# EAGLE library part BLOCKVB_1/6/2 (library tinyPFC)
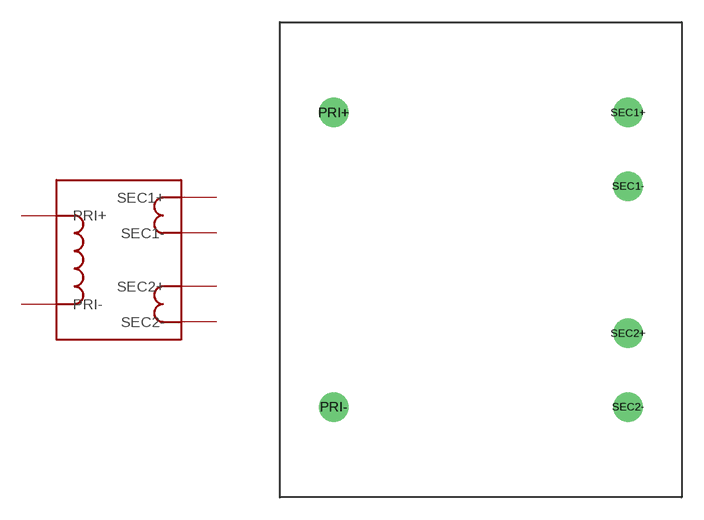
[diagram p3: symbol with the pads of VB/1/6/2; footprint VB/1/6/2]

Designator prefix -

## BLOCKVB_1/6/2  [VB/1/6/2]
PRI+  PRI+
PRI-  PRI-
SEC1+  SEC1+
SEC1-  SEC1-
SEC2+  SEC2+
SEC2-  SEC2-

## Footprint VB/1/6/2 (pad centres in mm)
drill 1 pad 2: PRI+ -10,10; PRI- -10,-10; SEC1+ 10,10; SEC1- 10,5; SEC2+ 10,-5; SEC2- 10,-10